# Altium schematic symbol library Diodes-Bridge.SchLib: 9 symbols
Pins are listed as number, name and electrical type; pins without a type are passive.

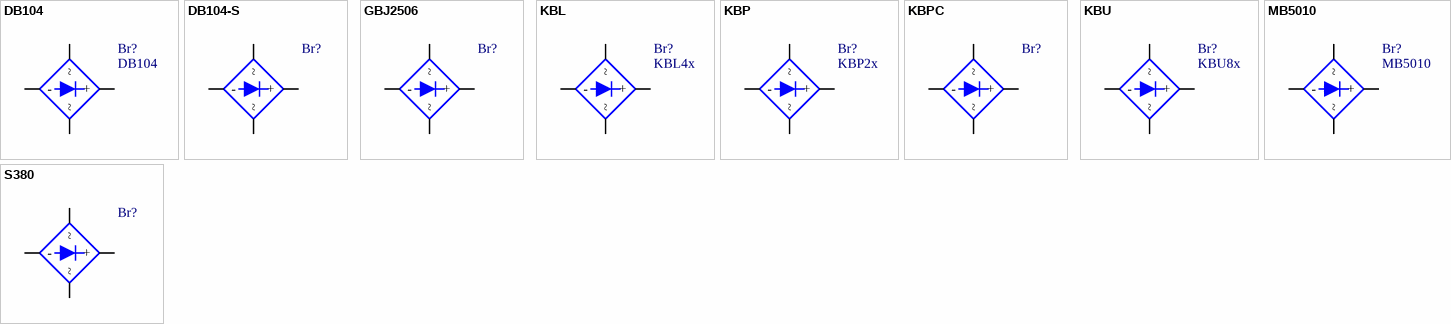
[diagram p0: symbols DB104 to S380]

## DB104
designator Br?
DIL-6(4); Price: 0.23
footprint DB104
signal-integrity model D (Model Description)
pins: 1 +, 2 -, 3 ~, 4 ~
2 alternate drawings of the same symbol

## DB104-S
designator Br?
SMD 1A 400V; Price: 0.23
footprint DB-S
signal-integrity model D (Model Description)
pins: 1 +, 2 -, 3 ~, 4 ~
2 alternate drawings of the same symbol

## GBJ2506
designator Br?
Грец  25A 600V; Price: 1.1
footprint GBJ25xx
signal-integrity model D (Model Description)
pins: 1 +, 2 -, 3 ~, 4 ~
2 alternate drawings of the same symbol

## KBL
designator Br?, comment KBL4x
Грец  4A; Price: 0.46
footprint KBL-200
footprint KBL-250
signal-integrity model D (Model Description)
pins: 1 +, 2 -, 3 ~, 4 ~
2 alternate drawings of the same symbol

## KBP
designator Br?, comment KBP2x
Грец  2A; Price: 0.21
footprint KBP-200
footprint KBP-150
footprint KBP-250
signal-integrity model D (Model Description)
pins: 1 +, 2 -, 3 ~, 4 ~
2 alternate drawings of the same symbol

## KBPC
designator Br?
Грец  6A; Price: 0.46
footprint KBPC
signal-integrity model D (Model Description)
pins: 1 +, 2 ~, 3 -, 4 ~
2 alternate drawings of the same symbol

## KBU
designator Br?, comment KBU8x
Грец  8A; Price: 0.52
footprint KBU-200 h22mm
signal-integrity model D (Model Description)
pins: 1 +, 2 -, 3 ~, 4 ~
2 alternate drawings of the same symbol

## MB5010
designator Br?
Грец 1000V 50A; Price: 1.8
footprint MB5010
signal-integrity model D (Model Description)
pins: 1 +, 2 -, 3 ~, 4 ~
2 alternate drawings of the same symbol

## S380
designator Br?
DIL-6(4); Price: 0.23
footprint TO269AA
signal-integrity model D (Model Description)
pins: 1 +, 2 -, 3 ~, 4 ~
2 alternate drawings of the same symbol